# EAGLE library part ERX00TRS (library wireless)
EASYRADIO module Farnell: 5096558
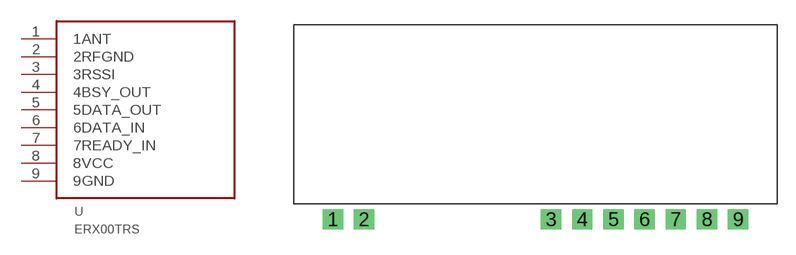
[diagram p1: symbol with the pads of ERX00TRS_9PINS; footprint ERX00TRS_9PINS]

Designator prefix -

## ERX00TRS  [ERX00TRS_9PINS]
1  1ANT
2  2RFGND
3  3RSSI
4  4BSY_OUT
5  5DATA_OUT
6  6DATA_IN
7  7READY_IN
8  8VCC
9  9GND

## Footprint ERX00TRS_9PINS (pad centres in mm)
drill 1.1 square: 1 0,0; 2 2.54,0; 3 17.78,0; 4 20.32,0; 5 22.86,0; 6 25.4,0; 7 27.94,0; 8 30.48,0; 9 33.02,0